# Altium footprint library DS90LV019.PcbLib: 3 footprints
Each footprint in its own frame and in the unit in brackets; x right, y up, seen from the top. Pads: shape width x height; smd on the part's side, far side on the other; paste and mask are expansions set on the pad; w line width, h text height; cw(c..) or ccw(c..) is an arc to the next point about the centre after c.
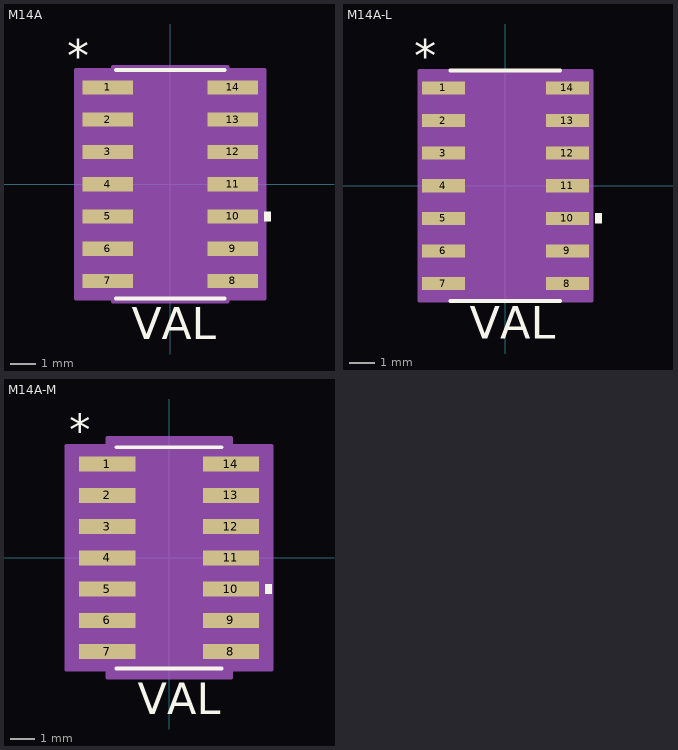
[diagram p0: the footprints below, top view; thin cyan lines are the x and y axes]

## M14A [mil]
pads (14):
  rect 78x22 smd: 1(-97,150) 2(-97,100) 3(-97,50) 4(-97,0) 5(-97,-50) 6(-97,-100) 7(-97,-150) 8(97,-150) 9(97,-100) 10(97,-50) 11(97,0) 12(97,50) 13(97,100) 14(97,150)
Top Overlay:
  region: 146,-42.5 156,-42.5 156,-57.5 146,-57.5
  lines w6: -84,-177 84,-177 ; -84,177 84,177
  text "*" at -160,175 h50
  text "VAL" at -60,-240 h50
Mechanical 13:
  lines w0: -12,172 ccw(c0,172) 12,172
  text "*" at -160,175 h50
Mechanical 15:
  region: -89,-177 -146,-177 -146,177 -89,177 -89,182 89,182 89,177 146,177 146,-177 89,-177 89,-182 -89,-182
  lines w6: -146,-177 -146,177 -89,177 -89,182 89,182 89,177 146,177 146,-177 89,-177 89,-182 -89,-182 -89,-177 -146,-177
Multi-Layer:
  text "Copyright (C) 2015 Accelerated Designs. All rights reserved" at 0,0 h1
3D body "M14A.stp": height 69.01, standoff 0, extent -122,-172 122,172

## M14A-L [mil]
pads (14):
  rect 66x20 smd: 1(-95,150) 2(-95,100) 3(-95,50) 4(-95,0) 5(-95,-50) 6(-95,-100) 7(-95,-150) 8(95,-150) 9(95,-100) 10(95,-50) 11(95,0) 12(95,50) 13(95,100) 14(95,150)
Top Overlay:
  region: 138,-42.5 148,-42.5 148,-57.5 138,-57.5
  lines w6: -84,-177 84,-177 ; -84,177 84,177
  text "*" at -140,175 h50
  text "VAL" at -55,-235 h50
Mechanical 13:
  lines w0: -12,172 ccw(c0,172) 12,172
  text "*" at -140,175 h50
Mechanical 15:
  region: -83,-175.8 -132,-175.8 -132,175.8 -83,175.8 -83,176 83,176 83,175.8 132,175.8 132,-175.8 83,-175.8 83,-176 -83,-176
  lines w6: -132,-175.8 -132,175.8 -83,175.8 -83,176 83,176 83,175.8 132,175.8 132,-175.8 83,-175.8 83,-176 -83,-176 -83,-175.8 -132,-175.8
Multi-Layer:
  text "Copyright (C) 2015 Accelerated Designs. All rights reserved" at 0,0 h1
3D body "M14A.stp": height 69.01, standoff 0, extent -121.99,-172 122.01,172

## M14A-M [mil]
pads (14):
  rect 90x24 smd: 1(-99,150) 2(-99,100) 3(-99,50) 4(-99,0) 5(-99,-50) 6(-99,-100) 7(-99,-150) 8(99,-150) 9(99,-100) 10(99,-50) 11(99,0) 12(99,50) 13(99,100) 14(99,150)
Top Overlay:
  region: 154,-42.5 164,-42.5 164,-57.5 154,-57.5
  lines w6: -84,-177 84,-177 ; -84,177 84,177
  text "*" at -160,180 h50
  text "VAL" at -50,-250 h50
Mechanical 13:
  lines w0: -12,172 ccw(c0,172) 12,172
  text "*" at -160,180 h50
Mechanical 15:
  region: -99,-179 -164,-179 -164,179 -99,179 -99,192 99,192 99,179 164,179 164,-179 99,-179 99,-192 -99,-192
  lines w6: -164,-179 -164,179 -99,179 -99,192 99,192 99,179 164,179 164,-179 99,-179 99,-192 -99,-192 -99,-179 -164,-179
Multi-Layer:
  text "Copyright (C) 2015 Accelerated Designs. All rights reserved" at 0,0 h1
3D body "M14A.stp": height 69.01, standoff 0, extent -121.99,-172 122.01,172